# Altium schematic symbol library Schlib.SchLib: 12 symbols
Pins are listed as number, name and electrical type; pins without a type are passive.

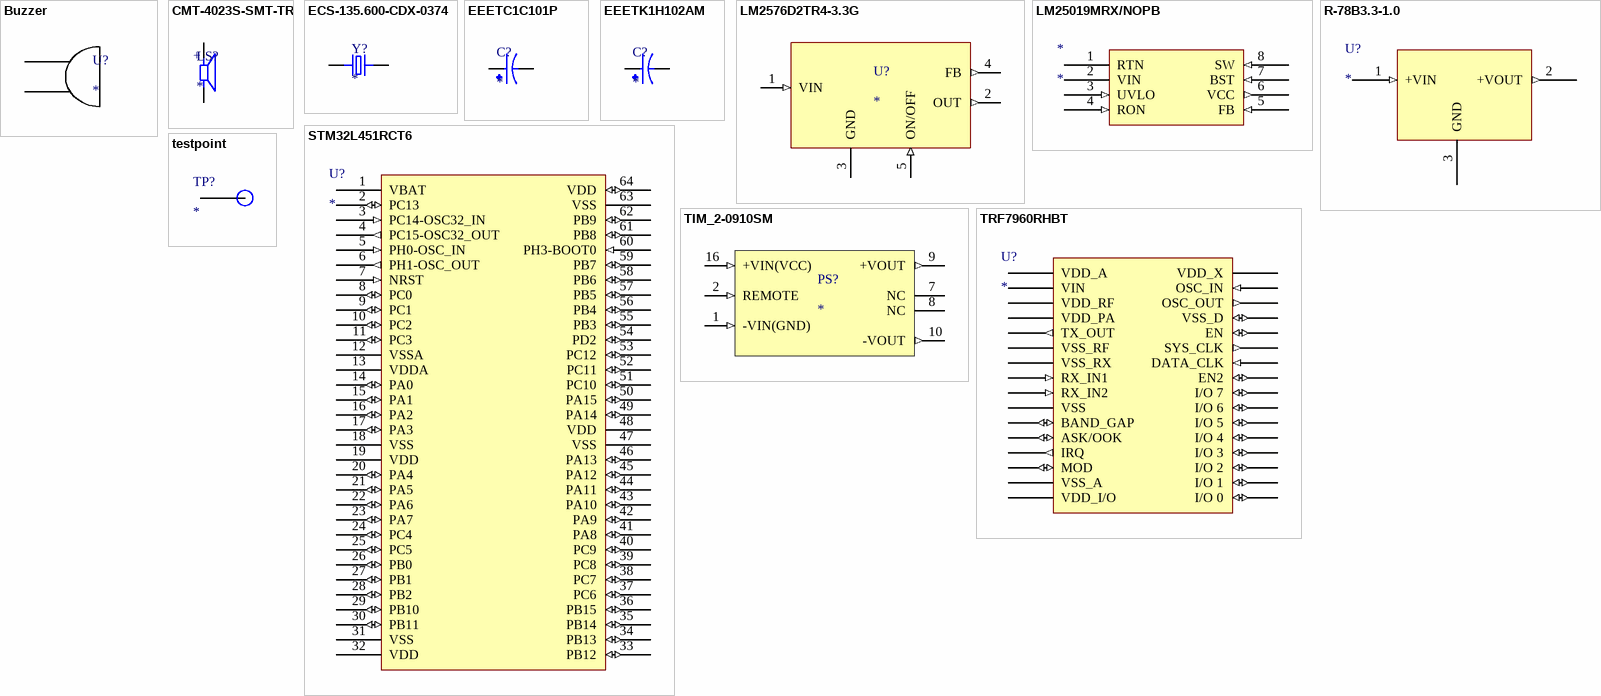
[diagram p0: symbols Buzzer to TRF7960RHBT]

## Buzzer
designator U?
footprint CUI_CMT-4023S-SMT-TR
pins: 4 VIN (power), 5 GND (power)

## CMT-4023S-SMT-TR
designator LS?
4 mm, 3 Vo-p, 70 dB, Surface Mount _SMT_, Magnetic Audio Transducer Buzzer; MF: CUI Devices; MP: CMT-4023S-SMT-TR; Value: *; Availability: Unavailable; Package: SIP-1 CUI; Price: None; SnapEDA_Link: https://www.snapeda.com/parts/CMT-4023S-SMT-TR/CUI%20Devices/view-part/612102/?ref=snap; CUI_purchase_URL: https://www.cuidevices.com/product/audio/buzzers/audio-transducers/cmt-4023s-smt-tr?utm_source=snapeda.com&utm_medium=referral&utm_campaign=snapedaBOM
footprint CUI_CMT-4023S-SMT-TR
pins: N, P
text: +

## ECS-135.600-CDX-0374
designator Y?
MP: ECS-135.600-CDX-0374; Package: None; Price: None; Value: *; Availability: Unavailable
footprint XTAL_ECS-135.600-CDX-0374
pins: 1, 2

## EEETC1C101P
designator C?
100µF 16V Aluminum Electrolytic Capacitors Radial, Can - SMD 200mOhm @ 100kHz 3000 Hrs @ 125°C; MP: EEETC1C101P; MF: Panasonic; Package: RADIAL-2 Panasonic; Availability: In Stock; Value: *; SnapEDA_Link: https://www.snapeda.com/parts/EEETC1C101P/Panasonic/view-part/?ref=snap; Price: None; Check_prices: https://www.snapeda.com/parts/EEETC1C101P/Panasonic/view-part/?ref=eda
footprint CAP_EEETC1C101P
pins: 1, 2

## EEETK1H102AM
designator C?
1000µF 50V Aluminum Electrolytic Capacitors Radial, Can - SMD 140mOhm @ 100kHz 2000 Hrs @ 125°C; MF: Panasonic Electronic; MP: EEE-TK1H102AM; Availability: In Stock; Price: None; Package: RADIAL-2 Panasonic; SnapEDA_Link: https://www.snapeda.com/parts/EEE-TK1H102AM/Panasonic%20Electronic%20Components/view-part/2193516/?ref=snap; Value: *; Check_prices: https://www.snapeda.com/parts/EEE-TK1H102AM/Panasonic%20Electronic%20Components/view-part/2193516/?ref=eda; Purchase-URL: https://pricing.snapeda.com/search/part/EEE-TK1H102AM/?ref=eda
footprint CAP_EEETK1H102AM
pins: 1, 2

## LM2576D2TR4-3.3G
designator U?
http://octopart.com/lm2576d2tr4-5g-on+semiconductor-46514222; MP: LM2576D2TR4-3.3G; Package: None; Price: None; Value: *; Availability: Unavailable
footprint D2PAK-5
pins: 1 VIN (in), 2 OUT (out), 3 GND, 4 FB (out), 5 ON/OFF (in)

## LM25019MRX/NOPB
designator *
7.5-48V Wide Vin, 100mA Constant On-Time Synchronous Buck Regulator 8-SO PowerPAD -40 to 125
footprint VREG_LM5017MR/NOPB
pins: 1 RTN (power), 2 VIN (power), 3 UVLO (in), 4 RON (in), 5 FB (in), 6 VCC (out), 7 BST (in), 8 SW (in)

## R-78B3.3-1.0
designator U?
DC DC CONVERTER 3.3V 3W
footprint CONV_R-78B3.3-1.0
footprint CONV_R-78B3.3-1.0L
pins: 1 +VIN (in), 2 +VOUT (out), 3 GND (power)

## STM32L451RCT6
designator U?
MCU 32-bit STM32; Manufacturer: STMicroelectronics; Manufacturer Part Number: STM32L451RCT6; RoHS: Yes; Category: Microcontrollers
footprint LQFP-64
pins: 1 VBAT (power), 2 PC13 (io), 3 PC14-OSC32_IN (in), 4 PC15-OSC32_OUT (out), 5 PH0-OSC_IN (in), 6 PH1-OSC_OUT (out), 7 NRST (in), 8 PC0 (io), 9 PC1 (io), 10 PC2 (io), 11 PC3 (io), 12 VSSA (power), 13 VDDA (power), 14 PA0 (io), 15 PA1 (io), 16 PA2 (io), 17 PA3 (io), 18 VSS (power), 19 VDD (power), 20 PA4 (io), 21 PA5 (io), 22 PA6 (io), 23 PA7 (io), 24 PC4 (io), 25 PC5 (io), 26 PB0 (io), 27 PB1 (io), 28 PB2 (io), 29 PB10 (io), 30 PB11 (io), 31 VSS (power), 32 VDD (power), 33 PB12 (io), 34 PB13 (io), 35 PB14 (io), 36 PB15 (io), 37 PC6 (io), 38 PC7 (io), 39 PC8 (io), 40 PC9 (io), 41 PA8 (io), 42 PA9 (io), 43 PA10 (io), 44 PA11 (io), 45 PA12 (io), 46 PA13 (io), 47 VSS (power), 48 VDD (power), 49 PA14 (io), 50 PA15 (io), 51 PC10 (io), 52 PC11 (io), 53 PC12 (io), 54 PD2 (io), 55 PB3 (io), 56 PB4 (io), 57 PB5 (io), 58 PB6 (io), 59 PB7 (io), 60 PH3-BOOT0 (in), 61 PB8 (io), 62 PB9 (io), 63 VSS (power), 64 VDD (io)

## testpoint
designator TP?
footprint Testpoint
pins: 1 tp

## TIM_2-0910SM
designator PS?
2 Watt DC/DC converter, medical, 2:1 input, 5000 VAC I/O-isolation (2 x MOPP), low leakage current, encapsulated, SMD (DIP-16); MP: TIM_2-0910SM; Value: *; Package: None; Availability: Unavailable; Price: None
footprint CONV_TIM_2-0910SM
pins: 1 -VIN(GND) (in), 2 REMOTE (in), 7 NC, 8 NC, 9 +VOUT (out), 10 -VOUT (out), 16 +VIN(VCC) (in)

## TRF7960RHBT
designator U?
TRF7960 Multi-Protocol Fully Integrated 13.56-MHz RFID Reader/Writer IC 32-VQFN -40 to 110
footprint IC_ADS125H01IRHBT
pins: ?1 VDD_A (power), ?2 VIN (power), ?3 VDD_RF (power), ?4 VDD_PA (power), ?5 TX_OUT (out), ?6 VSS_RF (power), ?7 VSS_RX (power), ?8 RX_IN1 (in), ?9 RX_IN2 (in), ?10 VSS (power), ?11 BAND_GAP (io), ?12 ASK/OOK (io), ?13 IRQ (out), ?14 MOD (io), ?15 VSS_A (power), ?16 VDD_I/O (power), ?17 I/O 0 (io), ?18 I/O 1 (io), ?19 I/O 2 (io), ?20 I/O 3 (io), ?21 I/O 4 (io), ?22 I/O 5 (io), ?23 I/O 6 (io), ?24 I/O 7 (io), ?25 EN2 (io), ?26 DATA_CLK (in), ?27 SYS_CLK (out), ?28 EN (io), ?29 VSS_D (io), ?30 OSC_OUT (out), ?31 OSC_IN (in), ?32 VDD_X (power)